# Altium footprint library ReboostV21.PcbLib: 40 footprints (part 3 of 3)
Each footprint in its own frame and in the unit in brackets; x right, y up, seen from the top. Pads: shape width x height; smd on the part's side, far side on the other; paste and mask are expansions set on the pad; w line width, h text height; cw(c..) or ccw(c..) is an arc to the next point about the centre after c.
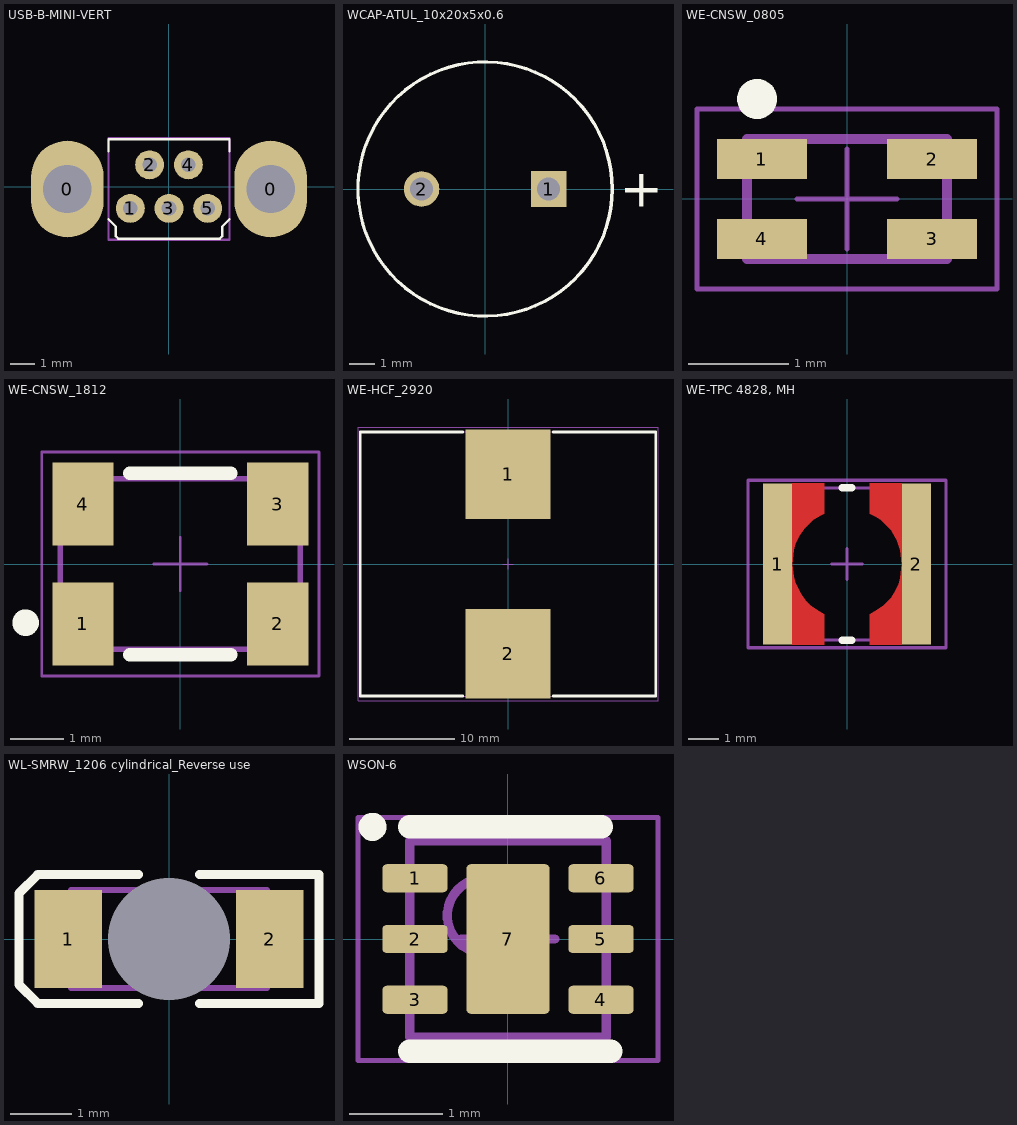
[diagram p2: the footprints below, top view; thin cyan lines are the x and y axes]

## USB-B-MINI-VERT [mm]
pads (7):
  oval 3x4 hole 2: 0(-4.2,-0.1) 0(4.2,-0.1)
  round 1.2 hole 0.6: 1(-1.6,-0.9) 2(-0.8,0.9) 3(0,-0.9) 4(0.8,0.9) 5(1.6,-0.9)
Top Overlay:
  lines w0.1: -2.5,-1.35 -2.2,-1.65 -2.2,-2.05 -2.1,-2.15 2.1,-2.15 2.2,-2.05 2.2,-1.65 2.5,-1.35 ; -2.5,1.45 -2.5,1.95 2.5,1.95 2.5,1.45
Mechanical 29:
  lines w0.1: -2.5,-2.2 2.5,-2.2 2.5,2 -2.5,2 -2.5,-2.2
  text ".designator" at -2.2,-0.6 h1.5
3D body "651005136421.stp": height 9.2, standoff -2.8, extent -5.098,-2.03 5.099,1.93

## WCAP-ATUL_10x20x5x0.6 [mm]
pads (2):
  rect 1.4x1.4 hole 0.9: 1(2.5,0)
  round 1.4 hole 0.9: 2(-2.5,0)
Top Overlay:
  circle w0.127: c0,0 r5
  text "+" at 5.3,-0.7 h1.5
3D body "10x20x5x0.6.stp": height 20.11, standoff -20.11, extent -4.99,-5 4.959,4.973

## WE-CNSW_0805 [mm]
pads (4):
  rect 0.9x0.4 smd: 1(-0.85,0.4) 2(0.85,0.4) 3(0.85,-0.4) 4(-0.85,-0.4)
Top Overlay:
  circle w0.2: c-0.9,1 r0.1
Mechanical 13:
  lines w0.1: -1,-0.6 -1,0.6 1,0.6 1,-0.6 -1,-0.6
Mechanical 15:
  lines w0.05: -0.5,0 0.5,0 ; 0,-0.5 0,0.5 ; -1.5,-0.9 1.5,-0.9 1.5,0.9 -1.5,0.9 -1.5,-0.9
3D body "744231xxx.stp": height 1.19, standoff -0.01, extent -1,-0.6 1,0.6

## WE-CNSW_1812 [mm]
pads (4):
  rect 1.15x1.55 smd: 1(-1.825,-1.125) 2(1.825,-1.125) 3(1.825,1.125) 4(-1.825,1.125)
Top Overlay:
  circle w0.25: c-2.9,-1.1 r0.125
  lines w0.25: -0.95,-1.7 0.95,-1.7 ; -0.95,1.7 0.95,1.7
Mechanical 13:
  lines w0.1: -2.25,-1.6 -2.25,1.6 2.25,1.6 2.25,-1.6 -2.25,-1.6
Mechanical 15:
  lines w0.05: -0.5,0 0.5,0 ; 0,-0.5 0,0.5 ; -2.6,-2.1 2.6,-2.1 2.6,2.1 -2.6,2.1 -2.6,-2.1
3D body "744235xxx.stp": height 2.84, standoff -0.01, extent -2.25,-1.6 2.25,1.6

## WE-HCF_2920 [mm]
pads (2):
  rect 8x8.5 smd: 1(0,8.5) 2(0,-8.5)
Top Overlay:
  lines w0.25: -4.3,-12.5 -14,-12.5 -14,12.5 -4.3,12.5 ; 4.3,-12.5 14,-12.5 14,12.5 4.3,12.5
Mechanical 11:
  lines w0.1: -14,-12.5 14,-12.5 14,12.5 -14,12.5 -14,-12.5
  text ".Designator" at -2.5,-0.75 h1.5
Mechanical 13:
  lines w0.1: -14,-12.5 -14,12.5 14,12.5 14,-12.5 -14,-12.5
Mechanical 15:
  lines w0.05: -0.5,0 0.5,0 ; 0,-0.5 0,0.5
  lines w0.1: -14.2,-12.95 -14.2,12.95 14.2,12.95 14.2,-12.95 -14.2,-12.95
3D body "74437429203xxx.stp": height 20, standoff 0, extent -13.65,-11.548 13.65,11.548

## WE-TPC 4828, MH [mm]
pads (2):
  rect 0.95x5.3 smd: 1(-2.275,0) 2(2.275,0)
Top Layer:
  region: -1.8,2.65 -0.75,2.65 -0.75,1.65 -0.85,1.6 -1.1,1.45 -1.4,1.15 -1.55,0.95 -1.7,0.65 -1.75,0.45 -1.8,0
  region: 1.8,2.65 0.75,2.65 0.75,1.65 0.95,1.55 1.1,1.45 1.45,1.1 1.6,0.85 1.65,0.75 1.75,0.45 1.8,0
  region: 1.8,-2.65 0.75,-2.65 0.75,-1.65 1,-1.5 1.2,-1.35 1.45,-1.1 1.55,-0.95 1.7,-0.65 1.75,-0.45 1.8,0
  region: -1.8,-2.65 -0.75,-2.65 -0.75,-1.65 -1,-1.5 -1.2,-1.35 -1.35,-1.2 -1.5,-1 -1.65,-0.7 -1.7,-0.6 -1.75,-0.4 -1.8,0
Top Overlay:
  lines w0.25: -0.15,-2.5 0.15,-2.5 ; -0.15,2.5 0.15,2.5
Mechanical 13:
  lines w0.1: -2.5,-2.5 2.5,-2.5 2.5,2.5 -2.5,2.5 -2.5,-2.5
Mechanical 15:
  lines w0.1: -0.5,0 0.5,0 ; 0,-0.5 0,0.5 ; -3.25,-2.75 3.25,-2.75 3.25,2.75 -3.25,2.75 -3.25,-2.75
3D body "744043470.stp": height 2.79, standoff -0.01, extent -2.4,-2.4 2.4,2.4

## WL-SMRW_1206 cylindrical_Reverse use [mm]
pads (3):
  rect 1.1x1.6 smd: 1(-1.65,0) 2(1.65,0)
  round 1.8 hole 2 unplated: ""(0,0)
Top Overlay:
  lines w0.15: -0.5,-1.054 -2.146,-1.054 -2.454,-0.746 -2.454,0.746 -2.146,1.054 -0.5,1.054 ; 0.5,-1.054 2.454,-1.054 2.454,1.054 0.5,1.054
Mechanical 13:
  lines w0.1: -1.6,-0.8 1.6,-0.8 1.6,0.8 -1.6,0.8 -1.6,-0.8
3D body "WL-SMRW_1206_cylindrical.stp": height 0.4, standoff -0.8, extent -1.6,-0.8 1.6,0.8

## WSON-6 [mm]
pads (7):
  rrect30% 0.7x0.3 smd: 1(-0.995,0.65) 2(-0.995,0) 3(-0.995,-0.65) 4(0.995,-0.65) 5(0.995,0) 6(0.995,0.65)
  rrect10% 0.89x1.6 smd: 7(0,0)
Top Overlay:
  circle w0.2: c-1.45,1.2 r0.05
  lines w0.25: -1.05,-1.2 1.1,-1.2 ; -1.05,1.2 1,1.2
Mechanical 13:
  circle w0.1: c-0.25,0.25 r0.4
  lines w0.1: -1.05,-1.05 1.05,-1.05 1.05,1.05 -1.05,1.05 -1.05,-1.05
Mechanical 15:
  lines w0.05: -1.605,-1.3 1.605,-1.3 1.605,1.3 -1.605,1.3 -1.605,-1.3
  lines w0.1: -0.5,0 0.5,0 ; 0,-0.5 0,0.5
3D body: height 0.8, standoff 0.1, extent -1.05,-1.05 1.05,1.05